# Altium schematic symbol library LED.SchLib: 4 symbols
Pins are listed as number, name and electrical type; pins without a type are passive.

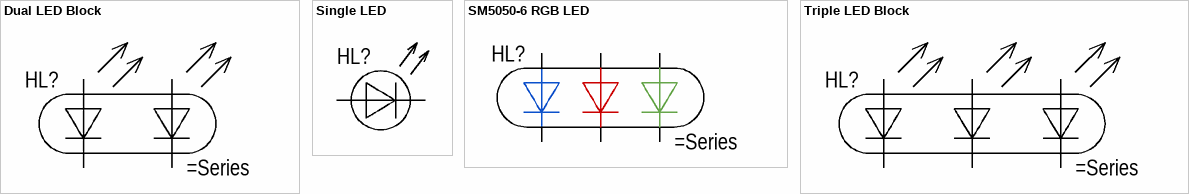
[diagram p0: symbols Dual LED Block to Triple LED Block]

## Dual LED Block
designator HL?
Dual Block-Type LED
pins: 1 Cathode, 2 Anode, 3 Cathode, 4 Anode

## Single LED
designator HL?, comment **  (value not drawn)
Single LED; Series: *; Color: *
pins: 1, 2

## SM5050-6 RGB LED
designator HL?
Triple Block-Type LED RGB
pins: 1 Cathode, 2 Cathode, 3 Cathode, 4 Anode, 5 Anode, 6 Anode

## Triple LED Block
designator HL?
Triple Block-Type LED
pins: 1 Cathode, 2 Anode, 3 Cathode, 4 Anode, 5 Cathode, 6 Anode